# Altium schematic symbol library DIM-Sockel.Schlib: 1 symbol
Pins are listed as number, name and electrical type; pins without a type are passive.

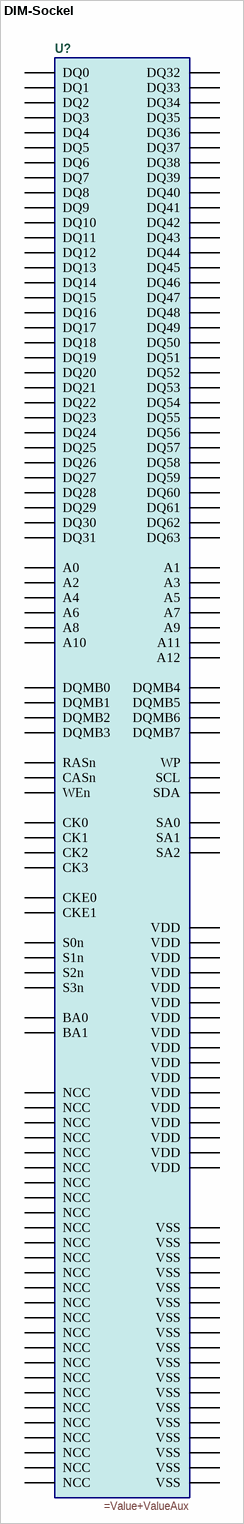
[diagram p0: symbol DIM-Sockel]

## DIM-Sockel
designator U?
=Description
pins: 1 VSS, 2 DQ0, 3 DQ1, 4 DQ2, 5 DQ3, 6 VDD, 7 DQ4, 8 DQ5, 9 DQ6, 10 DQ7, 11 DQ8, 12 VSS, 13 DQ9, 14 DQ10, 15 DQ11, 16 DQ12, 17 DQ13, 18 VDD, 19 DQ14, 20 DQ15, 21 NCC, 22 NCC, 23 VSS, 24 NCC, 25 NCC, 26 VDD, 27 WEn, 28 DQMB0, 29 DQMB1, 30 S0n, 31 NCC, 32 VSS, 33 A0, 34 A2, 35 A4, 36 A6, 37 A8, 38 A10, 39 BA1, 40 VDD, 41 VDD, 42 CK0, 43 VSS, 44 NCC, 45 S2n, 46 DQMB2, 47 DQMB3, 48 NCC, 49 VDD, 50 NCC, 51 NCC, 52 NCC, 53 NCC, 54 VSS, 55 DQ16, 56 DQ17, 57 DQ18, 58 DQ19, 59 VDD, 60 DQ20, 61 NCC, 62 NCC, 63 CKE1, 64 VSS, 65 DQ21, 66 DQ22, 67 DQ23, 68 VSS, 69 DQ24, 70 DQ25, 71 DQ26, 72 DQ27, 73 VDD, 74 DQ28, 75 DQ29, 76 DQ30, 77 DQ31, 78 VSS, 79 CK2, 80 NCC, 81 WP, 82 SDA, 83 SCL, 84 VDD, 85 VSS, 86 DQ32, 87 DQ33, 88 DQ34, 89 DQ35, 90 VDD, 91 DQ36, 92 DQ37, 93 DQ38, 94 DQ39, 95 DQ40, 96 VSS, 97 DQ41, 98 DQ42, 99 DQ43, 100 DQ44, 101 DQ45, 102 VDD, 103 DQ46, 104 DQ47, 105 NCC, 106 NCC, 107 VSS, 108 NCC, 109 NCC, 110 VDD, 111 CASn, 112 DQMB4, 113 DQMB5, 114 S1n, 115 RASn, 116 VSS, 117 A1, 118 A3, 119 A5, 120 A7, 121 A9, 122 BA0, 123 A11, 124 VDD, 125 CK1, 126 A12, 127 VSS, 128 CKE0, 129 S3n, 130 DQMB6, 131 DQMB7, 132 NCC, 133 VDD, 134 NCC, 135 NCC, 136 NCC, 137 NCC, 138 VSS, 139 DQ48, 140 DQ49, 141 DQ50, 142 DQ51, 143 VDD, 144 DQ52, 145 NCC, 146 NCC, 147 NCC, 148 VSS, 149 DQ53, 150 DQ54, 151 DQ55, 152 VSS, 153 DQ56, 154 DQ57, 155 DQ58, 156 DQ59, 157 VDD, 158 DQ60, 159 DQ61, 160 DQ62, 161 DQ63, 162 VSS, 163 CK3, 164 NCC, 165 SA0, 166 SA1, 167 SA2, 168 VDD